# Altium footprint library 1751251.PcbLib: 1 footprints
Each footprint in its own frame and in the unit in brackets; x right, y up, seen from the top. Pads: shape width x height; smd on the part's side, far side on the other; paste and mask are expansions set on the pad; w line width, h text height; cw(c..) or ccw(c..) is an arc to the next point about the centre after c.
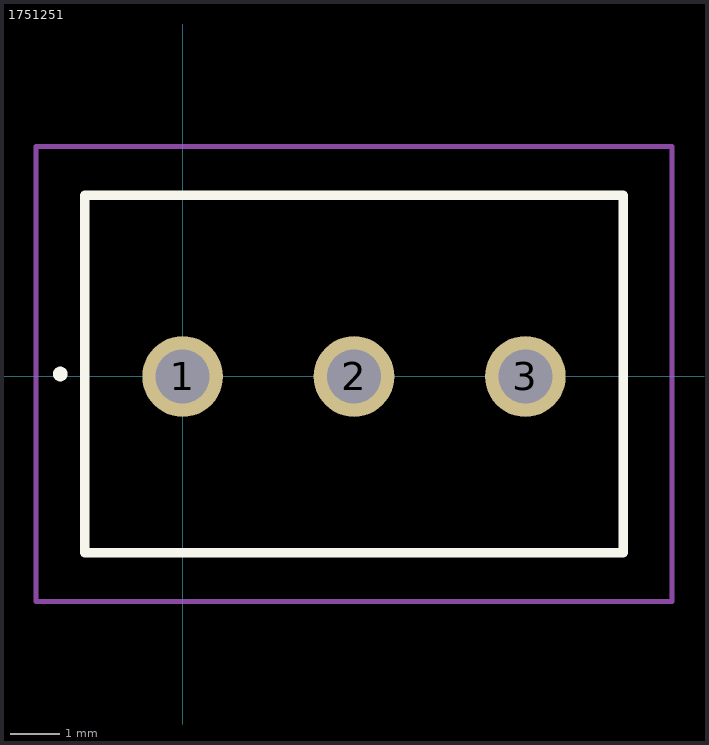
[diagram p0: the footprint, top view; thin cyan lines are the x and y axes]

## 1751251 [mm]
pads (3):
  round 1.65 hole 1.1: 1(0,0) 2(3.5,0) 3(7,0)
Top Overlay:
  lines w0.2: -2.5,0 cw(c-2.5,0.05) -2.5,0.1 cw(c-2.5,0.05) -2.5,0 ; -2,-3.6 -2,3.7 9,3.7 9,-3.6 -2,-3.6
Mechanical 15:
  lines w0.1: -2,-3.6 -2,3.7 9,3.7 9,-3.6 -2,-3.6
Mechanical 20:
  lines w0.1: -3,-4.6 -3,4.7 10,4.7 10,-4.6 -3,-4.6
3D body "1751251.stp": height 8.5, standoff -3.5, extent -1.944,-3.683 9.056,3.617